# EAGLE library part SAMTEC_ESQT_2X6_THROUGH_HOLE (library nathans-custom-parts)
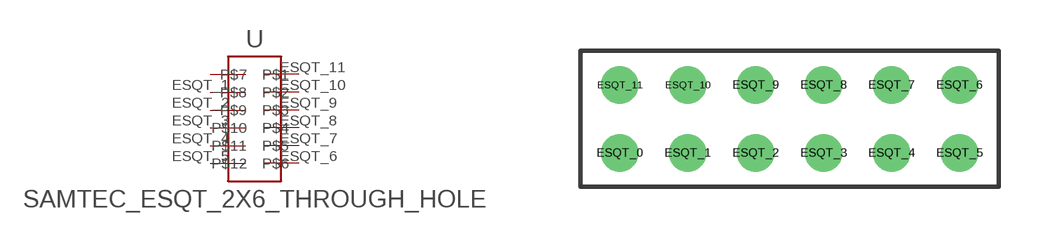
[diagram p8: symbol with the pads of SAMTEC_ESQT_2X6_THROUGH_HOLE; footprint SAMTEC_ESQT_2X6_THROUGH_HOLE]

Designator prefix -

## SAMTEC_ESQT_2X6_THROUGH_HOLE  [SAMTEC_ESQT_2X6_THROUGH_HOLE]
ESQT_0  P$1
ESQT_1  P$2
ESQT_2  P$3
ESQT_3  P$4
ESQT_4  P$5
ESQT_5  P$6
ESQT_6  P$12
ESQT_7  P$11
ESQT_8  P$10
ESQT_9  P$9
ESQT_10  P$8
ESQT_11  P$7

## SAMTEC_ESQT_2X6_THROUGH_HOLE2X6RAISEDPINTS  [SAMTEC_ESQT_2X6_THROUGH_HOLE]

## Footprint SAMTEC_ESQT_2X6_THROUGH_HOLE (pad centres in mm)
drill 0.6: ESQT_0 -5,-1; ESQT_1 -3,-1; ESQT_2 -1,-1; ESQT_3 1,-1; ESQT_4 3,-1; ESQT_5 5,-1; ESQT_6 5,1; ESQT_7 3,1; ESQT_8 1,1; ESQT_9 -1,1; ESQT_10 -3,1; ESQT_11 -5,1